# EAGLE library part SMARTPRJ_PN61729 (library slave_board)
BERG USB connector
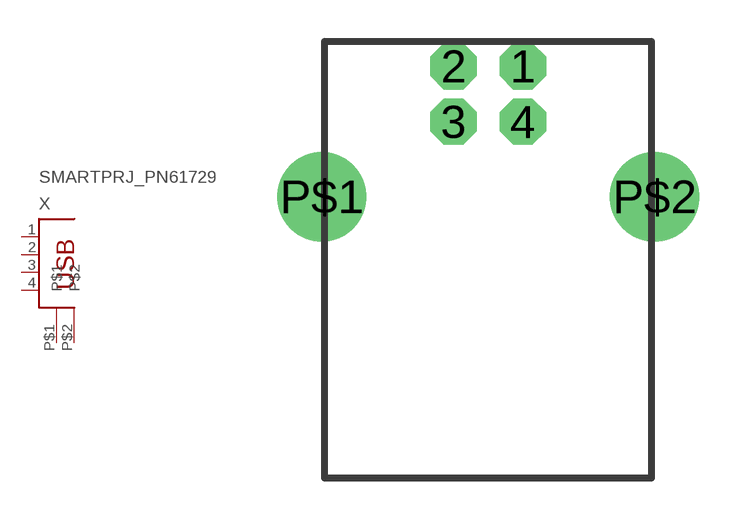
[diagram p6: symbol with the pads of SMARTPRJ_PN61729; footprint SMARTPRJ_PN61729]

Designator prefix X

## SMARTPRJ_PN61729  [SMARTPRJ_PN61729]
1  1
2  2
3  3
4  4
P$1  P$1
P$2  P$2

## Footprint SMARTPRJ_PN61729 (pad centres in mm)
BERG
drill 0.95 pad 1.676 octagon: 1 1.25,4.71; 2 -1.25,4.71; 3 -1.25,2.71; 4 1.25,2.71
drill 2.2: P$1 -6,0; P$2 6,0